# EAGLE library part DF40C-10DS-0.4V(51) (library connectors)
DF-40 Series CONN RCPT 10POS 0.4MM SMD GOLD
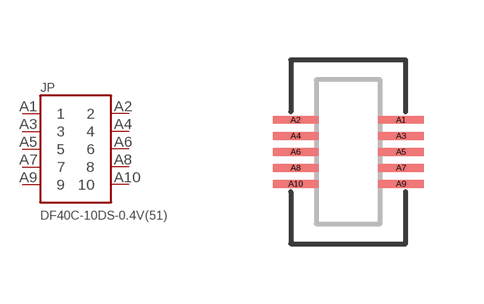
[diagram p0: symbol with the pads of DF40C-10DS-0.4V; footprint DF40C-10DS-0.4V]

Designator prefix JP

## DF40C-10DS-0.4V(51)  [DF40C-10DS-0.4V]
A1  1
A2  2
A3  3
A4  4
A5  5
A6  6
A7  7
A8  8
A9  9
A10  10

## Footprint DF40C-10DS-0.4V (pad centres in mm)
smd 1.14 x 0.2: A1 1.32,0.8; A2 -1.32,0.8; A3 1.32,0.4; A4 -1.32,0.4; A5 1.32,0; A6 -1.32,0; A7 1.32,-0.4; A8 -1.32,-0.4; A9 1.32,-0.8; A10 -1.32,-0.8